# Altium schematic symbol library EMI FILTER NFA18SL506X1A45L.Schlib: 1 symbol
Pins are listed as number, name and electrical type; pins without a type are passive.

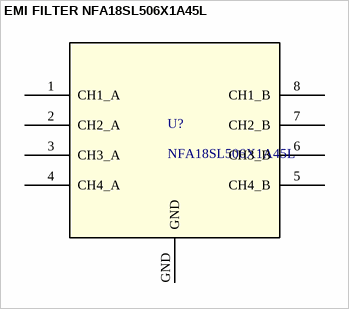
[diagram p0: symbol EMI FILTER NFA18SL506X1A45L]

## EMI FILTER NFA18SL506X1A45L
designator U?, comment NFA18SL506X1A45L
4-Channel EMI Filter 55Mhz LC 2nd Order
pins: 1 CH1_A, 2 CH2_A, 3 CH3_A, 4 CH4_A, 5 CH4_B, 6 CH3_B, 7 CH2_B, 8 CH1_B, GND